# EAGLE library part ULN2803-J (library uln2803)
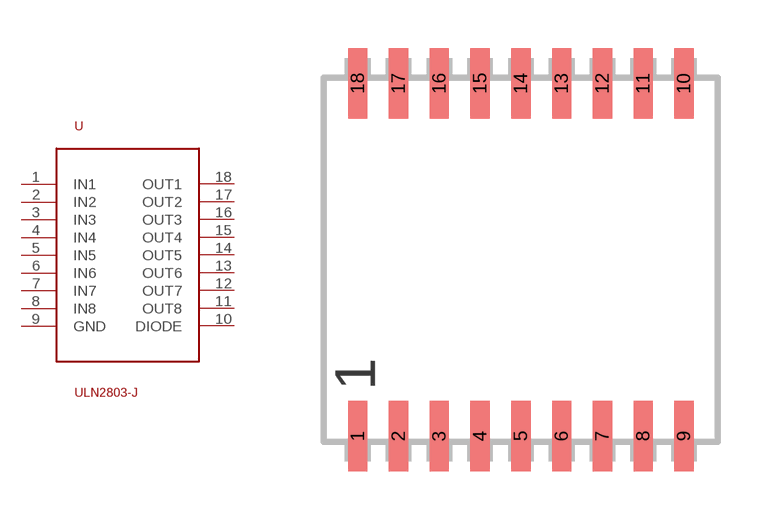
[diagram p1: symbol with the pads of SOJ18-45; footprint SOJ18-45]

Designator prefix -

## ULN2803-J  [SOJ18-45]
1  IN1  in
2  IN2  in
3  IN3  in
4  IN4  in
5  IN5  in
6  IN6  in
7  IN7  in
8  IN8  in
9  GND  sup
10  DIODE  sup
11  OUT8  oc
12  OUT7  oc
13  OUT6  oc
14  OUT5  oc
15  OUT4  oc
16  OUT3  oc
17  OUT2  oc
18  OUT1  oc

## Footprint SOJ18-45 (pad centres in mm)
SMALL OUTLINE J LEADS body 11.38 mm
smd 0.6 x 2.2: 1 -5.08,-5.5; 2 -3.81,-5.5; 3 -2.54,-5.5; 4 -1.27,-5.5; 5 0,-5.5; 6 1.27,-5.5; 7 2.54,-5.5; 8 3.81,-5.5; 9 5.08,-5.5; 10 5.08,5.5; 11 3.81,5.5; 12 2.54,5.5; 13 1.27,5.5; 14 0,5.5; 15 -1.27,5.5; 16 -2.54,5.5; 17 -3.81,5.5; 18 -5.08,5.5